# EAGLE library part IMM-NRF52832-NANO (library IMM-NRF5x)
Nordic nRF52832 based ARM M4F, Bluetooth 5 Module 10x7x1.6mm
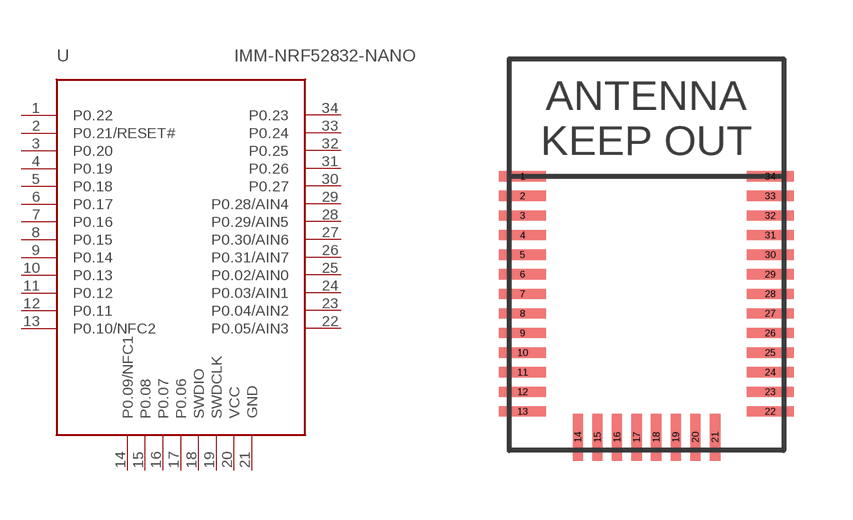
[diagram p1: symbol with the pads of IMM-NRF52832-NANO; footprint IMM-NRF52832-NANO]

Designator prefix -

## IMM-NRF52832-NANO  [IMM-NRF52832-NANO]
1  P0.22
2  P0.21/RESET#
3  P0.20
4  P0.19
5  P0.18
6  P0.17
7  P0.16
8  P0.15
9  P0.14
10  P0.13
11  P0.12
12  P0.11
13  P0.10/NFC2
14  P0.09/NFC1
15  P0.08
16  P0.07
17  P0.06
18  SWDIO
19  SWDCLK  out
20  VCC  pwr
21  GND  pas
22  P0.05/AIN3
23  P0.04/AIN2
24  P0.03/AIN1
25  P0.02/AIN0
26  P0.31/AIN7
27  P0.30/AIN6
28  P0.29/AIN5
29  P0.28/AIN4
30  P0.27
31  P0.26
32  P0.25
33  P0.24
34  P0.23

## Footprint IMM-NRF52832-NANO (pad centres in mm)
smd 1.2 x 0.26: 1 -3.16,2; 2 -3.16,1.5; 3 -3.16,1; 4 -3.16,0.5; 5 -3.16,0; 6 -3.16,-0.5; 7 -3.16,-1; 8 -3.16,-1.5; 9 -3.16,-2; 10 -3.16,-2.5; 11 -3.16,-3; 12 -3.16,-3.5; 13 -3.16,-4; 22 3.16,-4; 23 3.16,-3.5; 24 3.16,-3; 25 3.16,-2.5; 26 3.16,-2; 27 3.16,-1.5; 28 3.16,-1; 29 3.16,-0.5; 30 3.16,0; 31 3.16,0.5; 32 3.16,1; 33 3.16,1.5; 34 3.16,2
smd 0.26 x 1.2: 14 -1.75,-4.66; 15 -1.25,-4.66; 16 -0.75,-4.66; 17 -0.25,-4.66; 18 0.25,-4.66; 19 0.75,-4.66; 20 1.25,-4.66; 21 1.75,-4.66